# EAGLE library part LTC4365 (library shieldLibrary)
LINEAR TECHNOLOGY Overvoltage Protector
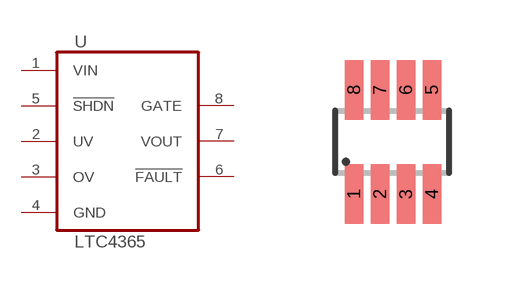
[diagram p2: symbol with the pads of TSOT23-8; footprint TSOT23-8]

Designator prefix U

## LTC4365  [TSOT23-8]
1  VIN  pwr
2  UV  in
3  OV  in
4  GND  pwr
5  !SHDN!  in
6  !FAULT!  out
7  VOUT  pwr
8  GATE  out

## Footprint TSOT23-8 (pad centres in mm)
S6 Package 6-Lead Plastic TSOT-23 Source: http://cds.linear.com/docs/Datasheet/623012fb.pdf
smd 0.457 x 1.499: 1 -0.95,-1.3; 2 -0.3,-1.3; 3 0.35,-1.3; 4 1,-1.3; 5 1,1.3; 6 0.35,1.3; 7 -0.3,1.3; 8 -0.95,1.3